# Altium footprint library Cap.PcbLib: 2 footprints
Each footprint in its own frame and in the unit in brackets; x right, y up, seen from the top. Pads: shape width x height; smd on the part's side, far side on the other; paste and mask are expansions set on the pad; w line width, h text height; cw(c..) or ccw(c..) is an arc to the next point about the centre after c.
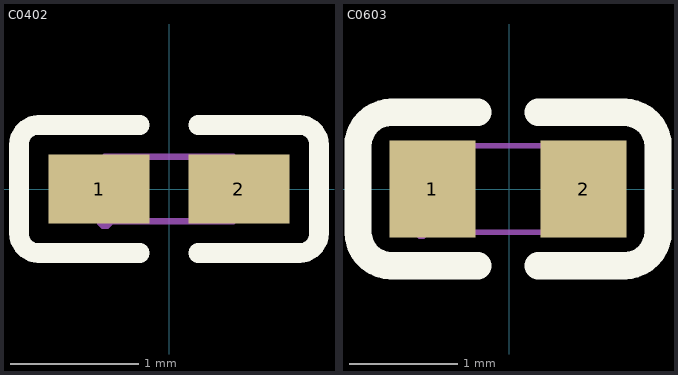
[diagram p0: the footprints below, top view; thin cyan lines are the x and y axes]

## C0402 [mm]
pads (2):
  rect 0.79x0.54 smd paste-100 mask+0.051: 1(-0.545,0) 2(0.545,0)
Top Overlay:
  lines w0.152: -0.226,-0.499 -1.016,-0.499 cw(c-1.016,-0.346) -1.169,-0.346 -1.169,0.346 cw(c-1.016,0.346) -1.016,0.499 -0.226,0.499 ; 0.226,-0.499 1.016,-0.499 ccw(c1.016,-0.346) 1.169,-0.346 1.169,0.346 ccw(c1.016,0.346) 1.016,0.499 0.226,0.499
Top Paste:
  region: 0.78,0.225 0.78,-0.225 0.73,-0.275 0.25,-0.275 0.18,-0.225 0.18,0.225 0.25,0.275 0.73,0.275
  region: -0.18,0.225 -0.18,-0.225 -0.25,-0.275 -0.73,-0.275 -0.78,-0.225 -0.78,0.225 -0.73,0.275 -0.25,0.275
Mechanical 15:
  region: 0.5,-0.25 0.5,0.25 0.25,0.25 0.25,-0.25
  region: -0.5,-0.25 -0.5,0.25 -0.25,0.25 -0.25,-0.25
  region: -0.44,-0.25 -0.44,-0.225 -0.475,-0.19 -0.525,-0.19 -0.56,-0.225 -0.56,-0.25 -0.56,-0.275 -0.525,-0.31 -0.475,-0.31 -0.44,-0.275 -0.44,-0.25
  lines w0.051: -0.5,-0.25 0.5,-0.25 0.5,0.25 -0.5,0.25 -0.5,-0.25
3D body "c_0402-h0.5.STEP": height 0.48, standoff -0.02, extent -0.5,-0.254 0.5,0.246

## C0603 [mm]
pads (2):
  rect 0.8x0.9 smd: 1(-0.71,0) 2(0.69,0)
Top Overlay:
  lines w0.254: -0.29,-0.71 -1.09,-0.71 cw(c-1.09,-0.4) -1.4,-0.4 -1.4,0.4 cw(c-1.09,0.4) -1.09,0.71 -0.29,0.71 ; 0.27,-0.71 1.07,-0.71 ccw(c1.07,-0.4) 1.38,-0.4 1.38,0.4 ccw(c1.07,0.4) 1.07,0.71 0.27,0.71
Mechanical 15:
  region: 0.79,-0.4 0.79,0.4 0.49,0.4 0.49,-0.4
  region: -0.81,-0.4 -0.81,0.4 -0.51,0.4 -0.51,-0.4
  region: -0.75,-0.4 -0.75,-0.375 -0.785,-0.34 -0.835,-0.34 -0.87,-0.375 -0.87,-0.4 -0.87,-0.425 -0.835,-0.46 -0.785,-0.46 -0.75,-0.425 -0.75,-0.4
  lines w0.051: -0.81,-0.4 0.79,-0.4 0.79,0.4 -0.81,0.4 -0.81,-0.4
3D body "CAPC0603 v1.step": height 0.5, standoff 0, extent -0.82,-0.4 0.78,0.4